# EAGLE library part 4040 (library Projeto_Nicolau)
Contador CMOS de 12 bits.
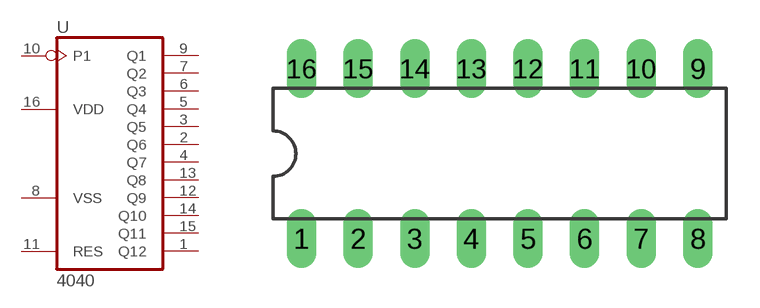
[diagram p9: symbol with the pads of DIL-16; footprint DIL-16]

Designator prefix -

## 4040  [DIL-16]
1  Q12  out
2  Q6  out
3  Q5  out
4  Q7  out
5  Q4  out
6  Q3  out
7  Q2  out
8  VSS  in
9  Q1  out
10  P1  in
11  RES  in
12  Q9  out
13  Q8  out
14  Q10  out
15  Q11  out
16  VDD  in

## Footprint DIL-16 (pad centres in mm)
drill 0.813 long: 1 -8.89,-3.81; 2 -6.35,-3.81; 3 -3.81,-3.81; 4 -1.27,-3.81; 5 1.27,-3.81; 6 3.81,-3.81; 7 6.35,-3.81; 8 8.89,-3.81; 9 8.89,3.81; 10 6.35,3.81; 11 3.81,3.81; 12 1.27,3.81; 13 -1.27,3.81; 14 -3.81,3.81; 15 -6.35,3.81; 16 -8.89,3.81